# Altium schematic symbol library 8-Pin.SchLib: 4 symbols
Pins are listed as number, name and electrical type; pins without a type are passive.

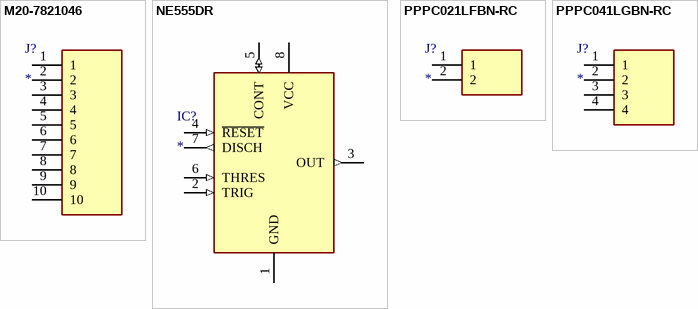
[diagram p0: symbols M20-7821046 to PPPC041LGBN-RC]

## M20-7821046
designator J?
Connector; Manufacturer_Name: Harwin; Manufacturer_Part_Number: M20-7821046; Description: M20 Socket; Datasheet Link: https://cdn.harwin.com/pdfs/M20-782.pdf; Height: 8.65mm; Mouser Part Number: 855-M20-7821046; Mouser Price/Stock: https://www.mouser.co.uk/ProductDetail/Harwin/M20-7821046?qs=Jph8NoUxIfXTsFl0wvOA6g%3D%3D
footprint RHDR10W70P0X254_1X10_2580X250X865P
pins: 1, 2, 3, 4, 5, 6, 7, 8, 9, 10

## NE555DR
designator IC?
Integrated Circuit; Manufacturer_Name: Texas Instruments; Manufacturer_Part_Number: NE555DR; Datasheet Link: http://www.ti.com/lit/ds/symlink/ne555.pdf; Height: 1.75mm; Mouser Part Number: 595-NE555DR; Mouser Price/Stock: https://www.mouser.com/Search/Refine.aspx?Keyword=595-NE555DR; RS Part Number: 1218414; RS Price/Stock: http://uk.rs-online.com/web/p/products/1218414
footprint SOIC127P600X175-8N
pins: 1 GND (power), 2 TRIG (in), 3 OUT (out), 4 ~{RESET} (in), 5 CONT (io), 6 THRES (in), 7 DISCH (out), 8 VCC (power)

## PPPC021LFBN-RC
designator J?
Connector; Manufacturer_Name: Sullins; Manufacturer_Part_Number: PPPC021LFBN-RC; Description: Female Header; Datasheet Link: http://www.sullinscorp.com/drawings/78_P(N)PxCxxxLFBN-RC,_10492-H.pdf; Height: 8.5mm
footprint RHDR2W80P0X254_1X2_558X254X850P
pins: 1, 2

## PPPC041LGBN-RC
designator J?
Connector; Manufacturer_Name: Sullins; Manufacturer_Part_Number: PPPC041LGBN-RC; Datasheet Link: https://drawings-pdf.s3.amazonaws.com/10493.pdf; Height: 2.74mm
footprint RHDRRA4W60P0X254_1X4_1066X850X274P
pins: 1, 2, 3, 4